# EAGLE library part ADN4663 (library FMC_prototype)
Dual 3V3 CMOS to LVDS differential line driver
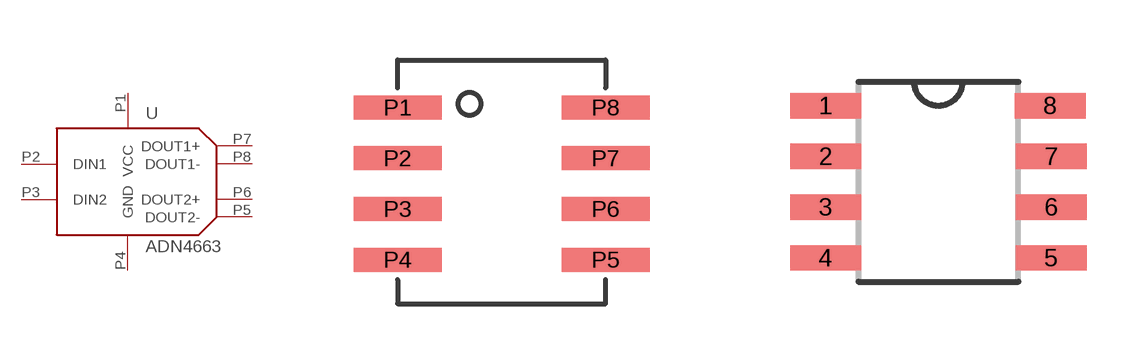
[diagram p1: symbol with the pads of 8-SOIC; footprints 8-SOIC, SOIC127P500X400-8N]

Designator prefix -

## ADN4663  [8-SOIC]
P1  VCC
P2  DIN1
P3  DIN2
P4  GND
P5  DOUT2-
P6  DOUT2+
P7  DOUT1+
P8  DOUT1-

## ADN4663_SOIC  [SOIC127P500X400-8N]
1  VCC
2  DIN1
3  DIN2
4  GND
5  DOUT2-
6  DOUT2+
7  DOUT1+
8  DOUT1-

## Footprint 8-SOIC (pad centres in mm)
smd 2.2 x 0.6: P1 0,3.81; P2 0,2.54; P3 0,1.27; P4 0,0; P5 5.2,0; P6 5.2,1.27; P7 5.2,2.54; P8 5.2,3.81

## Footprint SOIC127P500X400-8N (pad centres in mm)
smd 1.778 x 0.635: 1 -2.819,1.905; 2 -2.819,0.635; 3 -2.819,-0.635; 4 -2.819,-1.905; 5 2.819,-1.905; 6 2.819,-0.635; 7 2.819,0.635; 8 2.794,1.905